# EAGLE library part RT8289GSP (library richtek)
5V 5A Switching Regulator
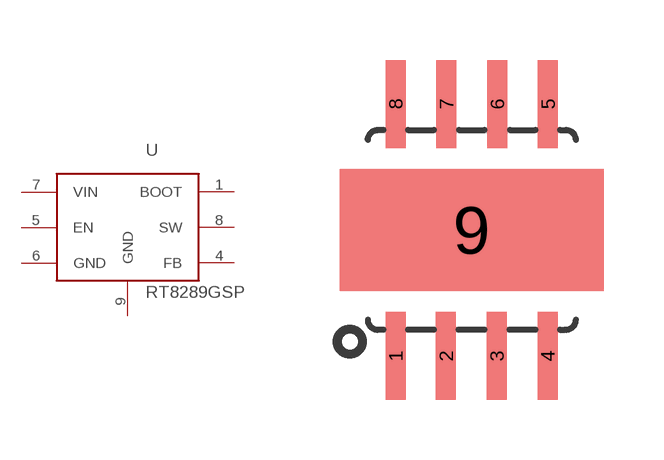
[diagram p0: symbol with the pads of SOIC8; footprint SOIC8]

Designator prefix U

## RT8289GSP  [SOIC8]
1  BOOT
4  FB  pas
5  EN  pas
6  GND  pas
7  VIN  pas
8  SW
9  GND

## Footprint SOIC8 (pad centres in mm)
Wide Plastic Gull Wing Small Outline Package
smd 0.5 x 2.2: 1 -1.905,-3.154; 2 -0.645,-3.154; 3 0.625,-3.154; 4 1.895,-3.154; 5 1.905,3.154; 6 0.635,3.154; 7 -0.635,3.154; 8 -1.905,3.154
smd 6.604 x 3.048: 9 0,0